# EAGLE library part MCP4017 (library Microchip)
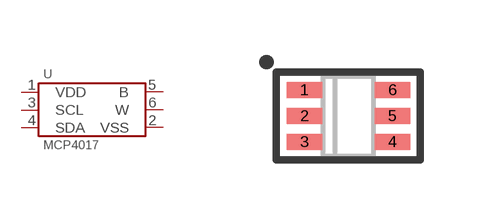
[diagram p23: symbol with the pads of SC-70-6; footprint SC-70-6]

Designator prefix U

## MCP4017T-103E/LT  [SC-70-6]
1  VDD
2  VSS
3  SCL
4  SDA
5  B
6  W

## Footprint SC-70-6 (pad centres in mm)
smd 0.9 x 0.4: 1 -1.1,0.65; 2 -1.1,0; 3 -1.1,-0.65; 4 1.1,-0.65; 5 1.1,0; 6 1.1,0.65